# EAGLE library part ATXMEGA_A4U (library 000_CustomPartsMaster)
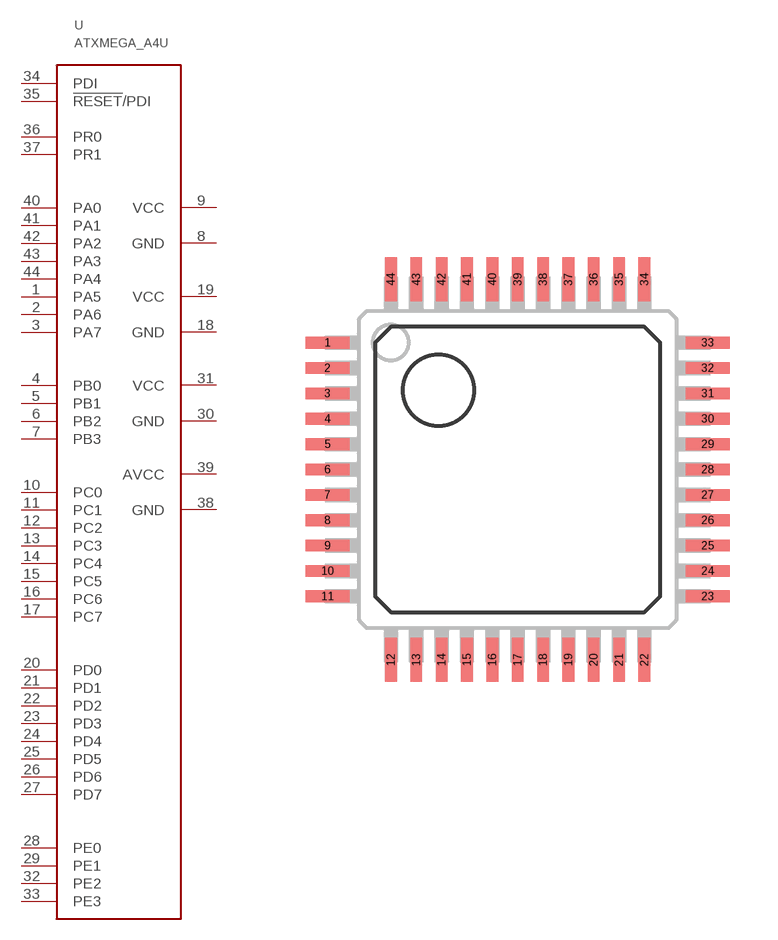
[diagram p5: symbol with the pads of 44-TQFP-0.8GRID; footprint 44-TQFP-0.8GRID]

Designator prefix -

## ATXMEGA_A4U  [44-TQFP-0.8GRID]
1  PA5
2  PA6
3  PA7
4  PB0
5  PB1
6  PB2
7  PB3
8  GND
9  VCC
10  PC0
11  PC1
12  PC2
13  PC3
14  PC4
15  PC5
16  PC6
17  PC7
18  GND
19  VCC
20  PD0
21  PD1
22  PD2
23  PD3
24  PD4
25  PD5
26  PD6
27  PD7
28  PE0
29  PE1
30  GND
31  VCC
32  PE2
33  PE3
34  PDI
35  !RESET!/PDI
36  PR0
37  PR1
38  GND
39  AVCC
40  PA0
41  PA1
42  PA2
43  PA3
44  PA4

## Footprint 44-TQFP-0.8GRID (pad centres in mm)
smd 1.4 x 0.37: 1 -6,4; 2 -6,3.2; 3 -6,2.4; 4 -6,1.6; 5 -6,0.8; 6 -6,0; 7 -6,-0.8; 8 -6,-1.6; 9 -6,-2.4; 10 -6,-3.2; 11 -6,-4; 23 6,-4; 24 6,-3.2; 25 6,-2.4; 26 6,-1.6; 27 6,-0.8; 28 6,0; 29 6,0.8; 30 6,1.6; 31 6,2.4; 32 6,3.2; 33 6,4
smd 0.37 x 1.4: 12 -4,-6; 13 -3.2,-6; 14 -2.4,-6; 15 -1.6,-6; 16 -0.8,-6; 17 0,-6; 18 0.8,-6; 19 1.6,-6; 20 2.4,-6; 21 3.2,-6; 22 4,-6; 34 4,6; 35 3.2,6; 36 2.4,6; 37 1.6,6; 38 0.8,6; 39 0,6; 40 -0.8,6; 41 -1.6,6; 42 -2.4,6; 43 -3.2,6; 44 -4,6